# Altium integrated library Omron Tactile Switches.IntLib: 2 symbols
Pins are listed as number, name and electrical type; pins without a type are passive.

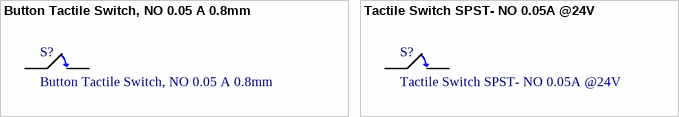
[diagram p0: symbols Button Tactile Switch, NO 0.05 A 0.8mm to Tactile Switch SPST- NO 0.05A @24V]

## Button Tactile Switch, NO 0.05 A 0.8mm
designator S?
Manufacturer: C & K; Manufacturer Part No.: B3F1000; State: Normaly Open; Date Created: 25 February 2015; Creator: R Kanjee; RS Stock No.: 516-255
footprint Button8014X17N (Chip Inductor, 2-Leads, Body 8.00x1.40mm, IPC Medium Density)
pins: 1, 1

## Tactile Switch SPST- NO 0.05A @24V
designator S?
Manufacturer: Omron; Manufacturer Part No.: B3F1000; State: Normaly Open; Date Created: 25 February 2015; Creator: R Kanjee; RS Stock No.: 686-6847
footprint Tactile Switch
footprint Tactile Switch
pins: 1, 1